# Altium schematic symbol library mainboard_1.SCHLIB: 115 symbols
Pins are listed as number, name and electrical type; pins without a type are passive.

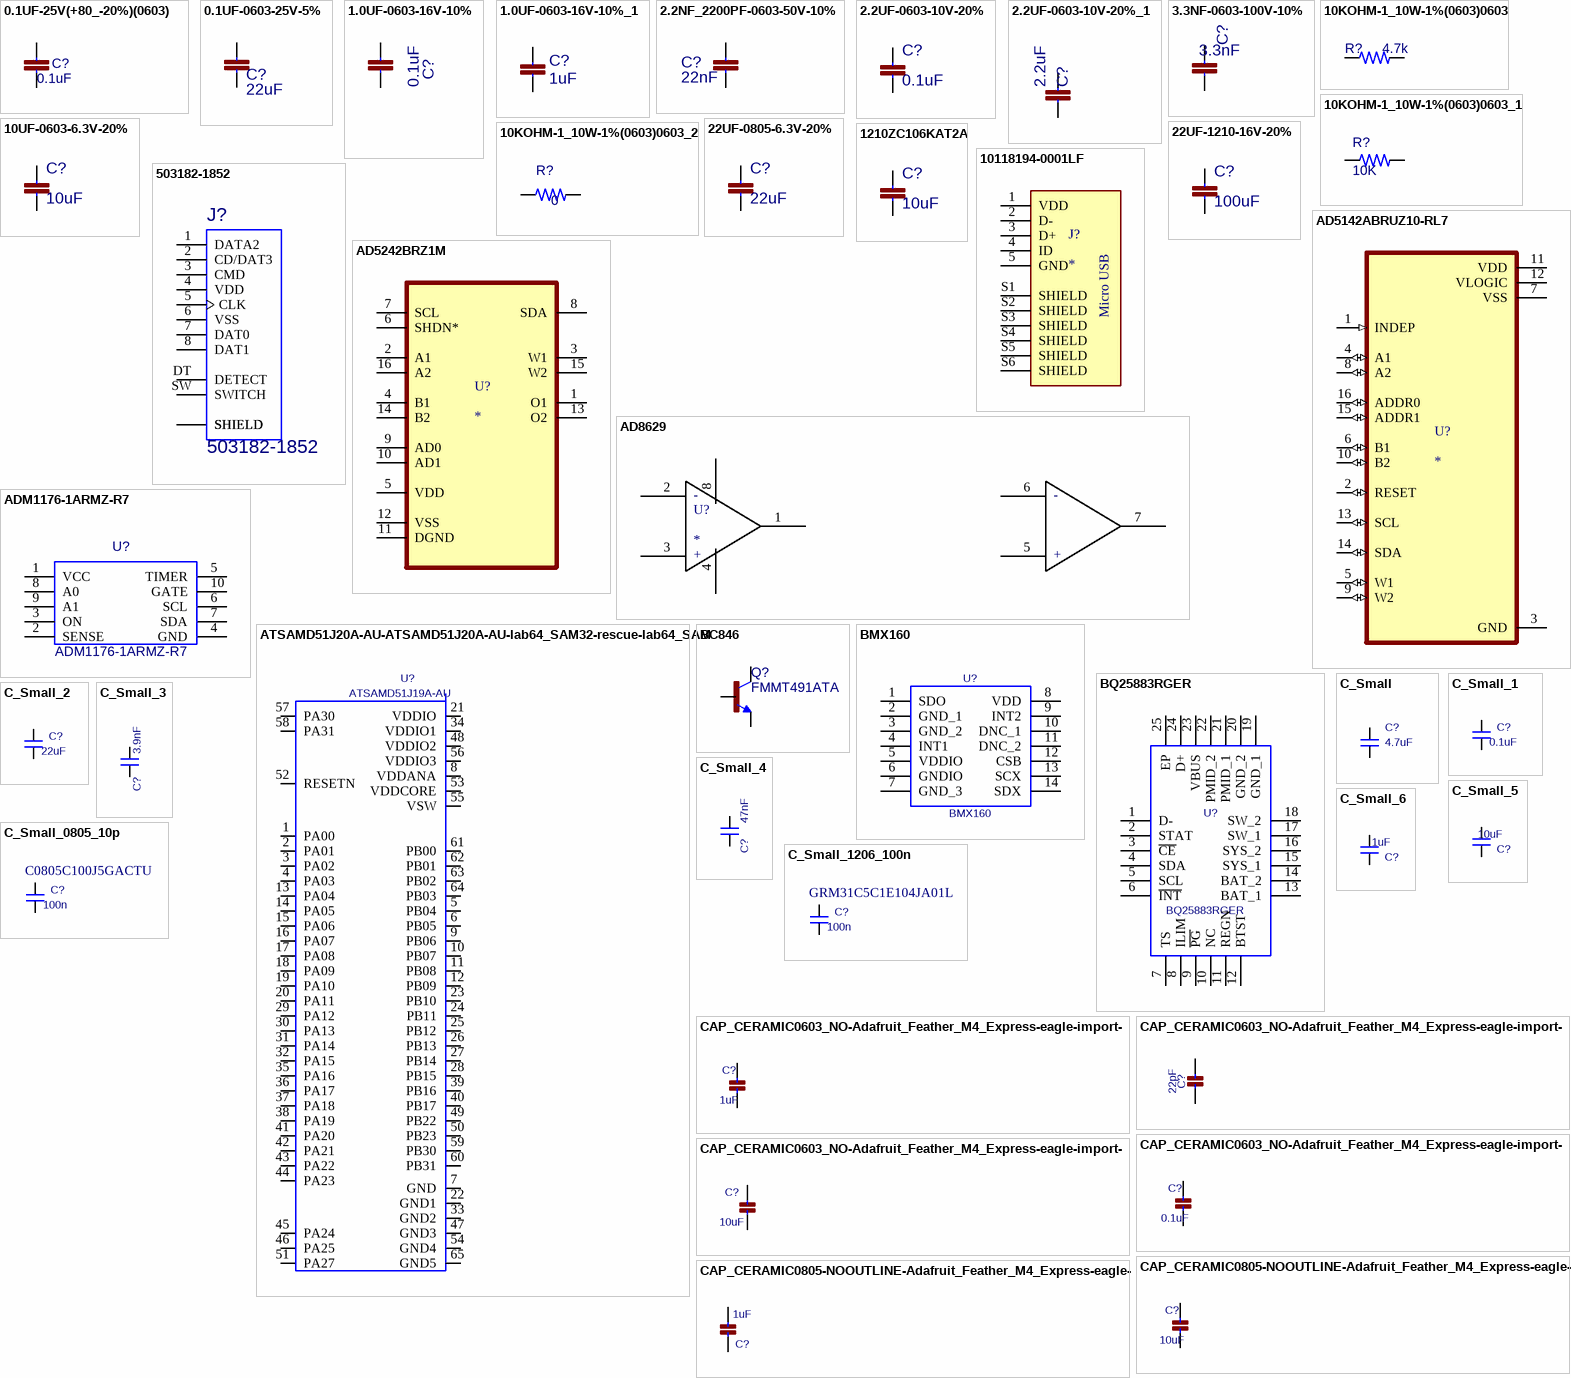
[diagram p0: symbols 0.1UF-25V(+80_-20%)(0603) to CAP_CERAMIC0805-NOOUTLINE-Adafruit_Feather_M4_Express-eagle-import-lab64_SAM32-rescue-SAMD-10-rescue-SAM32-rescue_1]

## 0.1UF-25V(+80_-20%)(0603)
designator C?, comment 0.1uF
MPN: CL10B104KB8NNNL; Footprint: Capacitor_SMD:C_0603_1608Metric; Value: 0.1uF
footprint C_0603_1608Metric
pins: 1, 2

## 0.1UF-0603-25V-5%
designator C?, comment 22uF
MPN: CL10A226MP8NUNE; Footprint: Capacitor_SMD:C_0603_1608Metric; Value: 22uF
footprint C_0603_1608Metric
pins: 1, 2

## 1.0UF-0603-16V-10%
designator C?, comment 0.1uF
MPN: CL10B104KO8NNNC; Footprint: Capacitor_SMD:C_0603_1608Metric; Value: 0.1uF
footprint C_0603_1608Metric
pins: 1, 2

## 1.0UF-0603-16V-10%_1
designator C?, comment 1uF
MPN: CL10A105KO8NNNC; Footprint: Capacitor_SMD:C_0603_1608Metric; Value: 1uF
footprint C_0603_1608Metric
pins: 1, 2

## 2.2NF_2200PF-0603-50V-10%
designator C?, comment 22nF
MPN: CL10B223KB8NNNC; Footprint: Capacitor_SMD:C_0603_1608Metric; Value: 22nF
footprint C_0603_1608Metric
pins: 1, 2

## 2.2UF-0603-10V-20%
designator C?, comment 0.1uF
MPN: CL10B104KO8NNNC; Footprint: Capacitor_SMD:C_0603_1608Metric; Value: 0.1uF
footprint C_0603_1608Metric
pins: 1, 2

## 2.2UF-0603-10V-20%_1
designator C?, comment 2.2uF
MPN: CL10A225KP8NNNC; Footprint: Capacitor_SMD:C_0603_1608Metric; Value: 2.2uF
footprint C_0603_1608Metric
pins: 1, 2

## 3.3NF-0603-100V-10%
designator C?, comment 3.3nF
MPN: 0603B332K101CT; Footprint: Capacitor_SMD:C_0603_1608Metric; Value: 3.3nF
footprint C_0603_1608Metric
pins: 1, 2

## 10KOHM-1_10W-1%(0603)0603
designator R?, comment 4.7k
MPN: RC0603JR-074K7L; Footprint: Resistor_SMD:R_0603_1608Metric; Value: 4.7k
footprint R_0603_1608Metric
pins: 1, 2

## 10KOHM-1_10W-1%(0603)0603_1
designator R?, comment 10K
MPN: MCT06030C1002FP500; Footprint: Resistor_SMD:R_0603_1608Metric; Value: 10K
footprint R_0603_1608Metric
pins: 1, 2

## 10KOHM-1_10W-1%(0603)0603_2
designator R?, comment 0
MPN: RMCF0603ZT0R00; Footprint: Resistor_SMD:R_0603_1608Metric; Value: 0
footprint R_0603_1608Metric
pins: 1, 2

## 10UF-0603-6.3V-20%
designator C?, comment 10uF
MPN: CL10A106MQ8NNNC; Footprint: Capacitor_SMD:C_0603_1608Metric; Value: 10uF
footprint C_0603_1608Metric
pins: 1, 2

## 22UF-0805-6.3V-20%
designator C?, comment 22uF
MPN: CL10A226MP8NUNE; Footprint: Capacitor_SMD:C_0603_1608Metric; Value: 22uF
footprint C_0603_1608Metric
pins: 1, 2

## 22UF-1210-16V-20%
designator C?, comment 100uF
MPN: CL32A107MQVNNNE; Footprint: Capacitor_SMD:C_1210_3225Metric; Value: 100uF
footprint C_1210_3225Metric
pins: 1, 2

## 1210ZC106KAT2A
designator C?, comment 10uF
MPN: 1210ZC106KAT2A; Footprint: Capacitor_SMD:C_0603_1608Metric; Value: 10uF
footprint C_0603_1608Metric
pins: 1, 2

## 503182-1852
designator J?
MPN: 5031821852; Footprint: mainboard:MOLEX_503182-1852; Value: 503182-1852
footprint MOLEX_503182-1852
pins: 1 DATA2, 2 CD/DAT3, 3 CMD, 4 VDD, 5 CLK, 6 VSS, 7 DAT0, 8 DAT1, DT DETECT, P1 SHIELD, P2 SHIELD, P3 SHIELD, P4 SHIELD, P5 SHIELD, SW SWITCH

## 10118194-0001LF
designator J?
Micro Usb, 2.0 Type b, Rcpt, Smt; MPN: 10118194-0001LF; Price: None; Availability: Unavailable; Value: *; Package: None
footprint AMPHENOL_10118194-0001LF
pins: 1 VDD, 2 D-, 3 D+, 4 ID, 5 GND, S1 SHIELD, S2 SHIELD, S3 SHIELD, S4 SHIELD, S5 SHIELD, S6 SHIELD
text: Micro USB

## AD5142ABRUZ10-RL7
designator U?
Digital Potentiometer 10kOhm 256POS Non-Volatile Linear/Log 16-Pin TSSOP T/R; MPN: AD5142ABRUZ10-RL7; MF: Analog Devices; Availability: In Stock; SnapEDA_Link: https://www.snapeda.com/parts/AD5142ABRUZ10-RL7/Analog+Devices/view-part/?ref=snap; Price: None; Package: TSSOP-16 Analog Devices; Value: *; Purchase-URL: https://pricing.snapeda.com/search/part/AD5142ABRUZ10-RL7/?ref=eda; Check_prices: https://www.snapeda.com/parts/AD5142ABRUZ10-RL7/Analog+Devices/view-part/?ref=eda
footprint SOP65P640X120-16N
pins: 1 INDEP (in), 2 RESET (io), 3 GND (power), 4 A1 (io), 5 W1 (io), 6 B1 (io), 7 VSS (power), 8 A2 (io), 9 W2 (io), 10 B2 (io), 11 VDD (power), 12 VLOGIC (power), 13 SCL (io), 14 SDA (io), 15 ADDR1 (io), 16 ADDR0 (io)

## AD5242BRZ1M
designator U?
Digital Potentiometer 1M Ohm 2 Circuit 256 Taps IÂ²C Interface 16-SOIC; MPN: AD5242BRZ1M; MF: Analog Devices; Value: *; Digi-Key_Part_Number: AD5242BRZ1M-ND; Check_prices: https://www.snapeda.com/parts/AD5242BRZ1M/Analog+Devices+Inc./view-part/?ref=eda; Package: SOIC-16 Analog Devices; SnapEDA_Link: https://www.snapeda.com/parts/AD5242BRZ1M/Analog+Devices+Inc./view-part/?ref=snap; Purchase-URL: https://pricing.snapeda.com/search/part/AD5242BRZ1M/?ref=eda
footprint SOIC127P600X175-16N
pins: 1 O1, 2 A1, 3 W1, 4 B1, 5 VDD (power), 6 SHDN*, 7 SCL, 8 SDA, 9 AD0, 10 AD1, 11 DGND, 12 VSS (power), 13 O2, 14 B2, 15 W2, 16 A2

## AD8629
designator U?
MPN: AD8629ARZ
footprint soic-8
pins: 1, 2, 3, 4, 5, 6, 7, 8
text: -; +

## ADM1176-1ARMZ-R7
designator U?
Proto: ADM1176-1ARMZ-R7; Footprint: custom-footprints:ADM1176-1ARMZ-R7; MPN: ADM1176-1ARMZ-R7; Value: ADM1176-1ARMZ-R7
footprint ADM1176-1ARMZ-R7
pins: 1 VCC, 2 SENSE, 3 ON, 4 GND, 5 TIMER, 6 SCL, 7 SDA, 8 A0, 9 A1, 10 GATE

## ATSAMD51J20A-AU-ATSAMD51J20A-AU-lab64_SAM32-rescue-lab64_SAM32-rescue-SAMD-10-rescue-SAM32-rescue
designator U?, comment Proto: ATSAMD51J19A-AU  (hidden comment: 120MHZ 512KB Flash 64 TQFP)
Field4: 120MHZ 512KB Flash 64 TQFP PKG inTray 85CTemp, 64 TQFP 10x10x1mm TRAY; Field5: TQFP-64 Microchip; Value: 120MHZ 512KB Flash 64 TQFP; Footprint: custom-footprints:QFP50P1200X1200X120-64N; MPN: ATSAMD51J19A-AU
footprint QFP50P1200X1200X120-64N
footprint ATSAMD51J19A-MU
pins: 1 PA00, 2 PA01, 3 PA02, 4 PA03, 5 PB04, 6 PB05, 7 GND, 8 VDDANA, 9 PB06, 10 PB07, 11 PB08, 12 PB09, 13 PA04, 14 PA05, 15 PA06, 16 PA07, 17 PA08, 18 PA09, 19 PA10, 20 PA11, 21 VDDIO, 22 GND1, 23 PB10, 24 PB11, 25 PB12, 26 PB13, 27 PB14, 28 PB15, 29 PA12, 30 PA13, 31 PA14, 32 PA15, 33 GND2, 34 VDDIO1, 35 PA16, 36 PA17, 37 PA18, 38 PA19, 39 PB16, 40 PB17, 41 PA20, 42 PA21, 43 PA22, 44 PA23, 45 PA24, 46 PA25, 47 GND3, 48 VDDIO2, 49 PB22, 50 PB23, 51 PA27, 52 RESETN, 53 VDDCORE, 54 GND4, 55 VSW, 56 VDDIO3, 57 PA30, 58 PA31, 59 PB30, 60 PB31, 61 PB00, 62 PB01, 63 PB02, 64 PB03, 65 GND5

## BC846
designator Q?, comment FMMT491ATA
Proto: S8050; Footprint: mainboard:SOT23; MPN: FMMT491ATA; Value: FMMT491ATA
footprint SOT23
pins: 1 B, 2 E, 3 C

## BMX160
designator U?
Proto: BMX160; Footprint: custom-footprints:BMX160; MPN: BMX160; Value: BMX160
footprint BMX160
pins: 1 SDO, 2 GND_1, 3 GND_2, 4 INT1, 5 VDDIO, 6 GNDIO, 7 GND_3, 8 VDD, 9 INT2, 10 DNC_1, 11 DNC_2, 12 CSB, 13 SCX, 14 SDX

## BQ25883RGER
designator U?
Proto: BQ25883RGER; Footprint: custom-footprints:QFN50P400X400X100-25N-D; MPN: BQ25883RGER; Value: BQ25883RGER
footprint QFN50P400X400X100-25N-D
pins: 1 D-, 2 STAT, 3 ~{CE}, 4 SDA, 5 SCL, 6 ~{INT}, 7 TS, 8 ILIM, 9 ~{PG}, 10 NC, 11 REGN, 12 BTST, 13 BAT_1, 14 BAT_2, 15 SYS_1, 16 SYS_2, 17 SW_1, 18 SW_2, 19 GND_1, 20 GND_2, 21 PMID_1, 22 PMID_2, 23 VBUS, 24 D+, 25 EP

## C_Small
designator C?, comment 4.7uF
MPN: CL10A475KQ8NNNC; Footprint: Capacitor_SMD:C_0603_1608Metric; Value: 4.7uF
footprint C_0603_1608Metric
pins: 1, 2

## C_Small_1
designator C?, comment 0.1uF
MPN: CL10B104KB8NNNL; Footprint: Capacitor_SMD:C_0603_1608Metric; Value: 0.1uF
footprint C_0603_1608Metric
pins: 1, 2

## C_Small_2
designator C?, comment 22uF
MPN: CL10A226MP8NUNE; Footprint: Capacitor_SMD:C_0603_1608Metric; Value: 22uF
footprint C_0603_1608Metric
pins: 1, 2

## C_Small_3
designator C?, comment 3.9nF
MPN: 0603B392K500CT; Footprint: Capacitor_SMD:C_0603_1608Metric; Value: 3.9nF
footprint C_0603_1608Metric
pins: 1, 2

## C_Small_4
designator C?, comment 47nF
MPN: CL10B473KB8NNNC; Footprint: Capacitor_SMD:C_0603_1608Metric; Value: 47nF
footprint C_0603_1608Metric
pins: 1, 2

## C_Small_5
designator C?, comment 10uF
MPN: CL10A106MQ8NNNC; Footprint: Capacitor_SMD:C_0603_1608Metric; Value: 10uF
footprint C_0603_1608Metric
pins: 1, 2

## C_Small_6
designator C?, comment 1uF
MPN: CL10A105KA8NNNC; Footprint: Capacitor_SMD:C_0603_1608Metric; Value: 1uF
footprint C_0603_1608Metric
pins: 1, 2

## C_Small_0805_10p
designator C?, comment value 100n  Supplier Part Number 1: C0805C100J5GACTU  (hidden comment: 10p)
Footprint: Capacitor_SMD:C_0603_1608Metric; MPN: C0805C100J5GACTU; Supplier 1: Arrow Electronics
footprint Resistor_0805
pins: 1, 2

## C_Small_1206_100n
designator C?, comment Supplier Part Number 1: GRM31C5C1E104JA01L  (hidden comment: 100n)
Footprint: Capacitor_SMD:C_0603_1608Metric; MPN: GRM31C5C1E104JA01L; Supplier 1: Arrow Electronics; Value: 100n
footprint Capacitor_1206
pins: 1, 2

## CAP_CERAMIC0603_NO-Adafruit_Feather_M4_Express-eagle-import-lab64_SAM32-rescue-SAMD-10-rescue-SAM32-rescue
designator C?, comment 1uF
MPN: CL10A105KB8NNNC; Footprint: Capacitor_SMD:C_0603_1608Metric; Value: 1uF
footprint C_0603_1608Metric
pins: 1, 2

## CAP_CERAMIC0603_NO-Adafruit_Feather_M4_Express-eagle-import-lab64_SAM32-rescue-SAMD-10-rescue-SAM32-rescue_1
designator C?, comment 22pF
MPN: 06035A220JAT2A; Footprint: Capacitor_SMD:C_0603_1608Metric; Value: 22pF
footprint C_0603_1608Metric
pins: 1, 2

## CAP_CERAMIC0603_NO-Adafruit_Feather_M4_Express-eagle-import-lab64_SAM32-rescue-SAMD-10-rescue-SAM32-rescue_2
designator C?, comment 0.1uF
MPN: CL10B104KB8NNNL; Footprint: Capacitor_SMD:C_0603_1608Metric; Value: 0.1uF
footprint C_0603_1608Metric
pins: 1, 2

## CAP_CERAMIC0603_NO-Adafruit_Feather_M4_Express-eagle-import-lab64_SAM32-rescue-SAMD-10-rescue-SAM32-rescue_3
designator C?, comment 10uF
MPN: CL10A106MQ8NNNC; Footprint: Capacitor_SMD:C_0603_1608Metric; Value: 10uF
footprint C_0603_1608Metric
pins: 1, 2

## CAP_CERAMIC0805-NOOUTLINE-Adafruit_Feather_M4_Express-eagle-import-lab64_SAM32-rescue-SAMD-10-rescue-SAM32-rescue
designator C?, comment 10uF
MPN: CL10A106MP8NNNC; Footprint: Capacitor_SMD:C_0603_1608Metric; Value: 10uF
footprint C_0603_1608Metric
pins: 1, 2

## CAP_CERAMIC0805-NOOUTLINE-Adafruit_Feather_M4_Express-eagle-import-lab64_SAM32-rescue-SAMD-10-rescue-SAM32-rescue_1
designator C?, comment 1uF
MPN: CL10A105KA8NNNC; Footprint: Capacitor_SMD:C_0603_1608Metric; Value: 1uF
footprint C_0603_1608Metric
pins: 1, 2

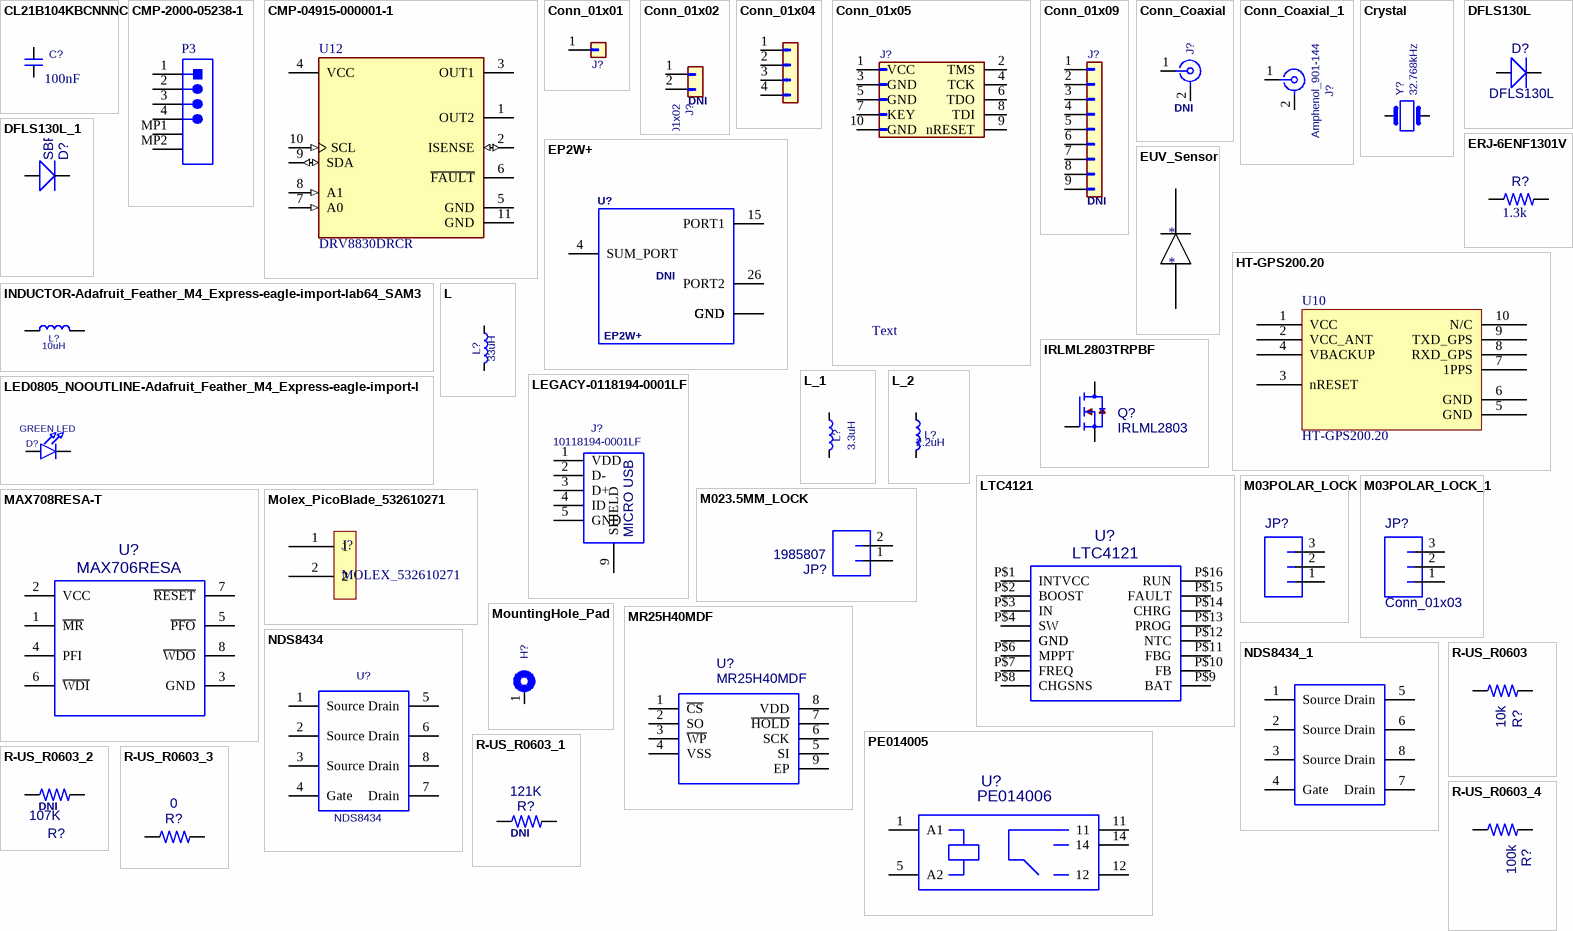
[diagram p1: symbols CL21B104KBCNNNC to R-US_R0603_4]

## CL21B104KBCNNNC
designator C?, comment 100nF
MPN: CL21B104KBCNNNC
footprint Resistor_0805
pins: 1, 2

## CMP-2000-05238-1
designator P3
Male Header, Pitch 1.25 mm, 1 x 4 Position, Height 3.4 mm, -40 to 85 degC, RoHS, Tape and Reel; MPN: 0533984004; Supplier 1: Digi-Key
footprint MOLEX-53261-0471_V (SMD, 4-Leads, Body 10.15x5.2mm, Pitch 1.25mm)
pins: 1, 2, 3, 4, MP1, MP2

## CMP-04915-000001-1
designator U12, comment DRV8830DRCR
IC MTRDRV BIPLR 2.75-6.8V 10VSON; Manufacturer: Texas Instruments; Switching Frequency: 44.5kHz; Standoff Height: 0mm; Nominal Supply Current: 1.4mA; Max Junction Temp: +150°C; Number Of Outputs: 1; Min Supply Voltage: 2.75V; Motor Type: Brushed; Max Supply Voltage: 6.8V; Output Current: 1A; Automotive: No; Temperature: -40°C to +85°C; ComponentLink2Description: Datasheet; Package: DRC0010J; Octopart: https://octopart.com/drv8830drcr-texas+instruments-21221812; Device Class L3: Motor Drivers; Height: 1mm; Lead Free: Yes; Device Class L2: Power Management ICs; Mouser Description: 1A Low Voltage Brushed DC Motor Driver with Speed Regulation (I2C Ctrl) 10-VSON -40 to 85; MPN: DRV8830DRCR; Temperature Range High: +85°C; ComponentLink2URL: http://www.ti.com/lit/ds/symlink/drv8830.pdf; Category: IC; RoHS: TRUE; Device Class L1: Integrated Circuits (ICs); Digikey Description: IC MTRDRV BIPLR 2.75-6.8V 10VSON; Temperature Range Low: -40°C
footprint FP-DRC0010J-MFG
pins: 1 OUT2 (power), 2 ISENSE (io), 3 OUT1 (power), 4 VCC (power), 5 GND (power), 6 ~{FAULT} (oc), 7 A0 (in), 8 A1 (in), 9 SDA (io), 10 SCL (in), 11 GND (power)

## Conn_01x01
designator J?  (value not drawn)  (mechanical)
Value: Conn_01x01; Footprint: Connector_PinHeader_2.54mm:PinHeader_1x01_P2.54mm_Vertical
footprint PinHeader_1x01_P2.54mm_Vertical
pins: 1 Pin_1

## Conn_01x02
designator J?  (mechanical)
Footprint: Connector_PinHeader_2.54mm:PinHeader_1x02_P2.54mm_Vertical; DNI: DNI; Value: Conn_01x02
footprint PinHeader_1x02_P2.54mm_Vertical
pins: 1 Pin_1, 2 Pin_2

## Conn_01x04
designator J?, comment USB Jumpers  (value not drawn)  (mechanical)
Value: USB Jumpers; Footprint: Connector_PinHeader_2.54mm:PinHeader_1x04_P2.54mm_Vertical
footprint PinHeader_1x04_P2.54mm_Vertical
pins: 1 Pin_1, 2 Pin_2, 3 Pin_3, 4 Pin_4

## Conn_01x05
designator J?  (value not drawn)  (no BOM)
Value: Conn_01x05; Footprint: Connector_PinHeader_2.54mm:PinHeader_1x05_P2.54mm_Vertical
footprint PinHeader_1x05_P2.54mm_Vertical
pins: 1 VCC, 2 TMS, 3 GND, 4 TCK, 5 GND, 6 TDO, 7 KEY, 8 TDI, 9 nRESET, 10 GND
text: Text

## Conn_01x09
designator J?  (value not drawn)  (mechanical)
Value: Conn_01x09; Footprint: Connector_PinHeader_2.54mm:PinHeader_1x09_P2.54mm_Vertical; DNI: DNI
footprint PinHeader_1x09_P2.54mm_Vertical
pins: 1 Pin_1, 2 Pin_2, 3 Pin_3, 4 Pin_4, 5 Pin_5, 6 Pin_6, 7 Pin_7, 8 Pin_8, 9 Pin_9

## Conn_Coaxial
designator J?, comment Amphenol_901-144  (value not drawn)  (mechanical)
Value: Amphenol_901-144; Footprint: Connector_Coaxial:SMA_Amphenol_901-144_Vertical; MPN: Amphenol_901-144; DNI: DNI
footprint SMA_Amphenol_901-144_Vertical
pins: 1 In, 2 Ext

## Conn_Coaxial_1
designator J?, comment Amphenol_901-144  (mechanical)
Footprint: Connector_Coaxial:SMA_Amphenol_901-144_Vertical; MPN: Amphenol_901-144; Value: Amphenol_901-144
footprint SMA_Amphenol_901-144_Vertical
pins: 1 In, 2 Ext

## Crystal
designator Y?, comment 32.768kHz
Proto: ABS07-32.768KHZ-T; Footprint: Crystal:Crystal_SMD_3215-2Pin_3.2x1.5mm; MPN: ABS07-32.768KHZ-T; Value: 32.768kHz
footprint Crystal_SMD_3215-2Pin_3.2x1.5mm
pins: 1, 2

## DFLS130L
designator D?
Proto: DFLS130L; Footprint: mainboard:PWRDI-123; MPN: DFLS130L; Value: DFLS130L
footprint PWRDI-123
pins: A, C

## DFLS130L_1
designator D?, comment SBR2A40P1Q-7
Proto: SBR2A40P1Q-7; Footprint: mainboard:PWRDI-123; MPN: SBR2A40P1Q-7; Value: SBR2A40P1Q-7
footprint PWRDI-123
pins: A, C

## EP2W+
designator U?  (value not drawn)
Value: EP2W+; Footprint: mainboard:QFN32-5X5MM; MPN: EP2W+; DNI: DNI
footprint QFN32-5X5MM
pins: 1 GND, 2 GND, 3 GND, 4 SUM_PORT, 5 GND, 6 GND, 7 GND, 8 GND, 9 GND, 10 GND, 11 GND, 12 GND, 13 GND, 14 GND, 15 PORT1, 16 GND, 17 GND, 18 GND, 19 GND, 20 GND, 21 GND, 22 GND, 23 GND, 24 GND, 25 GND, 26 PORT2, 27 GND, 28 GND, 29 GND, 30 GND, 31 GND, 32 GND, EP GND

## ERJ-6ENF1301V
designator R?, comment 1.3k
MPN: ERJ-6ENF1301V
footprint L_0805_2012Metric_Pad1.15x1.40mm_HandSolder
pins: 1, 2

## EUV_Sensor
designator *
pins: 1, 2

## HT-GPS200.20
designator U10
HT-GPS200.20 GNSS module
footprint HT-GPS200.20 (Footprint not found)
pins: 1 VCC, 2 VCC_ANT, 3 nRESET, 4 VBACKUP, 5 GND, 6 GND, 7 1PPS, 8 RXD_GPS, 9 TXD_GPS, 10 N/C

## INDUCTOR-Adafruit_Feather_M4_Express-eagle-import-lab64_SAM32-rescue-SAMD-10-rescue-SAM32-rescue
designator L?, comment 10uH
MPN: LBR2012T100K; Footprint: Inductor_SMD:L_0805_2012Metric_Pad1.15x1.40mm_HandSolder; Value: 10uH
footprint L_0805_2012Metric_Pad1.15x1.40mm_HandSolder
pins: 1, 2

## IRLML2803TRPBF
designator Q?, comment IRLML2803
Proto: 2302; Footprint: mainboard:SOT-23; MPN: IRLML2803; Value: IRLML2803
footprint SOT-23
pins: 1 G, 2 S, 3 D

## L
designator L?, comment 33uH
MPN: SLF6028T-330MR69-PF; Proto: SNR5040K-330M; Footprint: Inductor_SMD:L_1812_4532Metric; Value: 33uH
footprint L_1812_4532Metric
pins: 1, 2

## L_1
designator L?, comment 3.3uH
MPN: SPM5030T-3R3M-HZ; Proto: HPC5040NF-3R3MTH; Footprint: custom-footprints:L_2141; Value: 3.3uH
footprint L_2141
pins: 1, 2

## L_2
designator L?, comment value 2.2uH  (hidden comment: 1uH)
MPN: XFL4020-222MEC; Proto: XFL4020-222ME; Footprint: custom-footprints:L_4141
footprint L_4141
pins: 1, 1, 2, 2

## LED0805_NOOUTLINE-Adafruit_Feather_M4_Express-eagle-import-lab64_SAM32-rescue-SAMD-10-rescue-SAM32-rescue
designator D?, comment GREEN LED
MPN: LTST-C191KGKT; Footprint: LED_SMD:LED_0603_1608Metric; Value: GREEN LED
footprint LED_0603_1608Metric
pins: 1, 2

## LEGACY-0118194-0001LF
designator J?, comment 10118194-0001LF
Field4: Micro Usb, 2.0 Type b, Rcpt, Smt; Field5: 10118194-0001LF; Footprint: custom-footprints:10118194-0001LF; MPN: 10118194-0001LF; Value: 10118194-0001LF
footprint 10118194-0001LF
pins: 1 VDD, 2 D-, 3 D+, 4 ID, 5 GND, 8 hidden, 9 SHIELD
text: MICRO USB

## LTC4121
designator U?
Proto: LTC4121EUD; Footprint: custom-footprints:QFN-16-PAD; MPN: LTC4121EUD; Value: LTC4121
footprint QFN-16-PAD
pins: P$1 INTVCC, P$2 BOOST, P$3 IN, P$4 SW, P$5 GND, P$6 MPPT, P$7 FREQ, P$8 CHGSNS, P$9 BAT, P$10 FB, P$11 FBG, P$12 NTC, P$13 PROG, P$14 CHRG, P$15 FAULT, P$16 RUN, P$17 GND

## M03POLAR_LOCK
designator JP?, comment Conn_01x03  (value not drawn)
Value: Conn_01x03; Footprint: mainboard:MOLEX-1X3_LOCK
footprint MOLEX-1X3_LOCK
pins: 1, 2, 3

## M03POLAR_LOCK_1
designator JP?, comment Conn_01x03
Footprint: mainboard:MOLEX-1X3_LOCK; Value: Conn_01x03
footprint MOLEX-1X3_LOCK
pins: 1, 2, 3

## M023.5MM_LOCK
designator JP?, comment 1985807
Footprint: mainboard:SCREWTERMINAL-3.5MM-2_LOCK; Value: 1985807
footprint SCREWTERMINAL-3.5MM-2_LOCK
pins: 1, 2

## MAX708RESA-T
designator U?, comment MAX706RESA
Proto: MAX706RESA; Footprint: Package_SO:SO-8_3.9x4.9mm_P1.27mm; MPN: MAX706RESA; Value: MAX706RESA
footprint SO-8_3.9x4.9mm_P1.27mm
pins: 1 ~{MR}, 2 VCC, 3 GND, 4 PFI, 5 ~{PFO}, 6 ~{WDI}, 7 ~{RESET}, 8 ~{WDO}

## Molex_PicoBlade_532610271
designator J?, comment MOLEX_532610271
MPN: 532610271
footprint Molex_PicoBlade_532610271
pins: 1, 2

## MountingHole_Pad
designator H?  (value not drawn)  (no BOM)
Value: MountingHole_Pad; Footprint: MountingHole:MountingHole_3.2mm_M3_DIN965_Pad
footprint MountingHole_3.2mm_M3_DIN965_Pad
pins: 1

## MR25H40MDF
designator U?
Proto: W25Q80DVSNIG; Footprint: mainboard:SON127P600X500X90-9N; MPN: MR25H40MDF; Value: MR25H40MDF
footprint SON127P600X500X90-9N
pins: 1 ~{CS}, 2 SO, 3 ~{WP}, 4 VSS, 5 SI, 6 SCK, 7 ~{HOLD}, 8 VDD, 9 EP

## NDS8434
designator U?
MPN: IRF7404TRPBF; Proto: DMP2022LSS-13; Footprint: custom-footprints:NDS8434; Value: NDS8434
footprint NDS8434
pins: 1 Source, 2 Source, 3 Source, 4 Gate, 5 Drain, 6 Drain, 7 Drain, 8 Drain

## NDS8434_1
designator U?, comment NDS8434  (value not drawn)
MPN: IRF7404TRPBF; Proto: DMP2022LSS-13; Value: NDS8434; Footprint: custom-footprints:NDS8434
footprint NDS8434
pins: 1 Source, 2 Source, 3 Source, 4 Gate, 5 Drain, 6 Drain, 7 Drain, 8 Drain

## PE014005
designator U?, comment PE014006
MPN: PE014006 TE; Proto: JE-109D GOODSKY; Footprint: mainboard:RELAY5-PE_CO; Value: PE014006
footprint RELAY5-PE_CO
pins: 1 A1, 5 A2, 11, 12, 14

## R-US_R0603
designator R?, comment 10k
MPN: RNCP0603FTD10K0; Footprint: Resistor_SMD:R_0603_1608Metric; Value: 10k
footprint R_0603_1608Metric
pins: 1, 2

## R-US_R0603_1
designator R?, comment 121K
MPN: RT0603FRE07121KL; Footprint: Resistor_SMD:R_0603_1608Metric; DNI: DNI; Value: 121K
footprint R_0603_1608Metric
pins: 1, 2

## R-US_R0603_2
designator R?, comment 107K
MPN: RC0603FR-07107KL; Footprint: Resistor_SMD:R_0603_1608Metric; DNI: DNI; Value: 107K
footprint R_0603_1608Metric
pins: 1, 2

## R-US_R0603_3
designator R?, comment 0
MPN: RMCF0603ZT0R00; Footprint: Resistor_SMD:R_0603_1608Metric; Value: 0
footprint R_0603_1608Metric
pins: 1, 2

## R-US_R0603_4
designator R?, comment 100k
MPN: RC0603JR-07100KL; Footprint: Resistor_SMD:R_0603_1608Metric; Value: 100k
footprint R_0603_1608Metric
pins: 1, 2

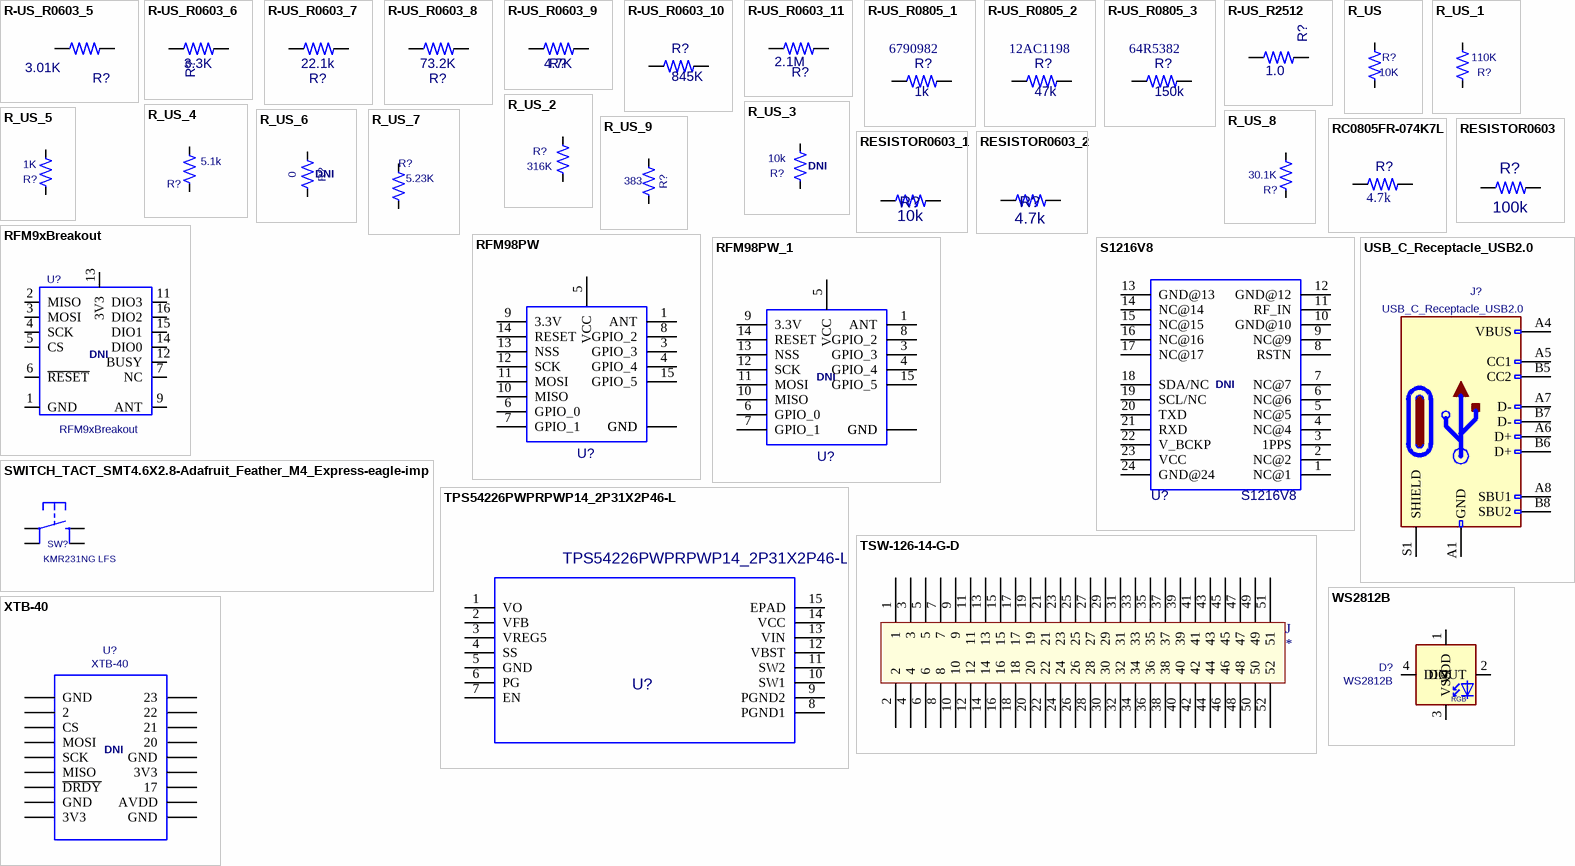
[diagram p2: symbols R-US_R0603_5 to XTB-40]

## R-US_R0603_5
designator R?, comment 3.01K
MPN: RMCF0603FT3K01; Footprint: Resistor_SMD:R_0603_1608Metric; Value: 3.01K
footprint R_0603_1608Metric
pins: 1, 2

## R-US_R0603_6
designator R?, comment 3.3K
MPN: RC0603FR-073K3L; Footprint: Resistor_SMD:R_0603_1608Metric; Value: 3.3K
footprint R_0603_1608Metric
pins: 1, 2

## R-US_R0603_7
designator R?, comment 22.1k
MPN: RC0603FR-1022K1L; Footprint: Resistor_SMD:R_0603_1608Metric; Value: 22.1k
footprint R_0603_1608Metric
pins: 1, 2

## R-US_R0603_8
designator R?, comment 73.2K
MPN: RC0603FR-0773K2L; Footprint: Resistor_SMD:R_0603_1608Metric; Value: 73.2K
footprint R_0603_1608Metric
pins: 1, 2

## R-US_R0603_9
designator R?, comment 4.7K
MPN: RC0603JR-074K7L; Footprint: Resistor_SMD:R_0603_1608Metric; Value: 4.7K
footprint R_0603_1608Metric
pins: 1, 2

## R-US_R0603_10
designator R?, comment 845K
MPN: RC0603FR-07845KL; Footprint: Resistor_SMD:R_0603_1608Metric; Value: 845K
footprint R_0603_1608Metric
pins: 1, 2

## R-US_R0603_11
designator R?, comment 2.1M
MPN: RC0603FR-072M1L; Footprint: Resistor_SMD:R_0603_1608Metric; Value: 2.1M
footprint R_0603_1608Metric
pins: 1, 2

## R-US_R0805_1
designator R?, comment Supplier Part Number 1: 6790982  (hidden comment: 1k)
MPN: RN73C2A1K0BTDF; Footprint: Resistor_SMD:R_0603_1608Metric; Supplier 1: RSComponents; Value: 1k
footprint L_0805_2012Metric_Pad1.15x1.40mm_HandSolder
pins: 1, 2

## R-US_R0805_2
designator R?, comment Supplier Part Number 1: 12AC1198  (hidden comment: 47k)
MPN: ERJ-6GEYJ473V; Footprint: Resistor_SMD:R_0603_1608Metric; Supplier 1: Newark; Value: 47k
footprint L_0805_2012Metric_Pad1.15x1.40mm_HandSolder
pins: 1, 2

## R-US_R0805_3
designator R?, comment Supplier Part Number 1: 64R5382  (hidden comment: 150k)
MPN: ERJ-6ENF1503V; Footprint: Resistor_SMD:R_0603_1608Metric; Supplier 1: Newark; Value: 150k
footprint L_0805_2012Metric_Pad1.15x1.40mm_HandSolder
pins: 1, 2

## R-US_R2512
designator R?, comment 1.0
MPN: RMCF2512FT1R00; Footprint: Resistor_SMD:R_2512_6332Metric; Value: 1.0
footprint R_2512_6332Metric
pins: 1, 2

## R_US
designator R?, comment 10K
MPN: CRGCQ0603J10K; Footprint: Resistor_SMD:R_0603_1608Metric; Value: 10K
footprint R_0603_1608Metric
pins: 1, 2

## R_US_1
designator R?, comment 110K
MPN: RC0603JR-07110KL; Footprint: Resistor_SMD:R_0603_1608Metric; Value: 110K
footprint R_0603_1608Metric
pins: 1, 2

## R_US_2
designator R?, comment 316K
MPN: RT0603BRD07316KL; Footprint: Resistor_SMD:R_0603_1608Metric; Value: 316K
footprint R_0603_1608Metric
pins: 1, 2

## R_US_3
designator R?, comment 10k
MPN: RT0603DRD0710KL; Footprint: Resistor_SMD:R_0603_1608Metric; DNI: DNI; Value: 10k
footprint R_0603_1608Metric
pins: 1, 2

## R_US_4
designator R?, comment 5.1k
MPN: RC0603JR-075K1L; Footprint: Resistor_SMD:R_0603_1608Metric; Value: 5.1k
footprint R_0603_1608Metric
pins: 1, 2

## R_US_5
designator R?, comment 1K
MPN: AF0603FR-071KL; Footprint: Resistor_SMD:R_0603_1608Metric; Value: 1K
footprint R_0603_1608Metric
pins: 1, 2

## R_US_6
designator R?, comment 0
MPN: RMCF0603ZT0R00; Footprint: Resistor_SMD:R_0603_1608Metric; DNI: DNI; Value: 0
footprint R_0603_1608Metric
pins: 1, 2

## R_US_7
designator R?, comment 5.23K
MPN: AC0603FR-075K23L; Footprint: Resistor_SMD:R_0603_1608Metric; Value: 5.23K
footprint R_0603_1608Metric
pins: 1, 2

## R_US_8
designator R?, comment 30.1K
MPN: RT0603BRD0730K1L; Footprint: Resistor_SMD:R_0603_1608Metric; Value: 30.1K
footprint R_0603_1608Metric
pins: 1, 2

## R_US_9
designator R?, comment 383
MPN: RC0603FR-07383KL; Footprint: Resistor_SMD:R_0603_1608Metric; Value: 383
footprint R_0603_1608Metric
pins: 1, 2

## RC0805FR-074K7L
designator R?, comment 4.7k
MPN: RC0805FR-074K7L
footprint L_0805_2012Metric_Pad1.15x1.40mm_HandSolder
pins: 1, 2

## RESISTOR0603
designator R?, comment 100k
MPN: RC0603JR-07100KL; Footprint: Resistor_SMD:R_0603_1608Metric; Value: 100k
footprint R_0603_1608Metric
pins: 1, 2

## RESISTOR0603_1
designator R?, comment 10k
MPN: RNCP0603FTD10K0; Footprint: Resistor_SMD:R_0603_1608Metric; Value: 10k
footprint R_0603_1608Metric
pins: 1, 2

## RESISTOR0603_2
designator R?, comment 4.7k
MPN: RC0603JR-074K7L; Footprint: Resistor_SMD:R_0603_1608Metric; Value: 4.7k
footprint R_0603_1608Metric
pins: 1, 2

## RFM9xBreakout
designator U?
MPN: 109990166; Footprint: RF_Module:HOPERF_RFM9XW_SMD; DNI: DNI; Value: RFM9xBreakout
footprint HOPERF_RFM9XW_SMD
pins: 1 GND, 2 MISO, 3 MOSI, 4 SCK, 5 CS, 6 ~{RESET}, 7 NC, 8 GND hidden, 9 ANT, 10 GND hidden, 11 DIO3, 12 BUSY, 13 3V3, 14 DIO0, 15 DIO1, 16 DIO2

## RFM98PW
designator U?  (value not drawn)
MPN: RFM98W-433S2; Value: RFM98PW; Footprint: custom-footprints:RFM98PW
footprint RFM98PW
pins: 1 ANT, 2 GND, 3 GPIO_3, 4 GPIO_4, 5 VCC, 6 GPIO_0, 7 GPIO_1, 8 GPIO_2, 9 3.3V, 10 MISO, 11 MOSI, 12 SCK, 13 NSS, 14 RESET, 15 GPIO_5, 16 GND

## RFM98PW_1
designator U?, comment RFM98PW  (value not drawn)
MPN: RFM98W-433S2; Value: RFM98PW; Footprint: custom-footprints:RFM98PW; DNI: DNI
footprint RFM98PW
pins: 1 ANT, 2 GND, 3 GPIO_3, 4 GPIO_4, 5 VCC, 6 GPIO_0, 7 GPIO_1, 8 GPIO_2, 9 3.3V, 10 MISO, 11 MOSI, 12 SCK, 13 NSS, 14 RESET, 15 GPIO_5, 16 GND

## S1216V8
designator U?
Footprint: mainboard:S1216_24PIN_PACKAGE; MPN: S1216V8; DNI: DNI; Value: S1216V8
footprint S1216_24PIN_PACKAGE
pins: 1 NC@1, 2 NC@2, 3 1PPS, 4 NC@4, 5 NC@5, 6 NC@6, 7 NC@7, 8 RSTN, 9 NC@9, 10 GND@10, 11 RF_IN, 12 GND@12, 13 GND@13, 14 NC@14, 15 NC@15, 16 NC@16, 17 NC@17, 18 SDA/NC, 19 SCL/NC, 20 TXD, 21 RXD, 22 V_BCKP, 23 VCC, 24 GND@24

## SWITCH_TACT_SMT4.6X2.8-Adafruit_Feather_M4_Express-eagle-import-lab64_SAM32-rescue-SAMD-10-rescue-SAM32-rescue
designator SW?, comment KMR231NG LFS
Footprint: Adafruit Feather M4 Express:BTN_KMR2_4.6X2.8; MPN: KMR231NG LFS; Value: KMR231NG LFS
footprint BTN_KMR2_4.6X2.8
pins: A P, A' P1, B S, B' S1

## TPS54226PWPRPWP14_2P31X2P46-L
designator U?
Proto: TPS54226PWPRPWP14_2P31X2P46-L; Footprint: mainboard:PWP14_2P31X2P46-L; MPN: TPS54226PWP; Value: TPS54226PWPRPWP14_2P31X2P46-L
footprint PWP14_2P31X2P46-L
pins: 1 VO, 2 VFB, 3 VREG5, 4 SS, 5 GND, 6 PG, 7 EN, 8 PGND1, 9 PGND2, 10 SW1, 11 SW2, 12 VBST, 13 VIN, 14 VCC, 15 EPAD

## TSW-126-14-G-D
designator J
MPN: TSW-126-14-G-D
footprint SAMTEC_TSW-126-14-G-D
pins: 1, 2, 3, 4, 5, 6, 7, 8, 9, 10, 11, 12, 13, 14, 15, 16, 17, 18, 19, 20, 21, 22, 23, 24, 25, 26, 27, 28, 29, 30, 31, 32, 33, 34, 35, 36, 37, 38, 39, 40, 41, 42, 43, 44, 45, 46, 47, 48, 49, 50, 51, 52

## USB_C_Receptacle_USB2.0
designator J?
MPN: U262-161N-4BVC11; Footprint: custom-footprints:USB_C_Receptacle_XKB_U262-161N-4BVC11; Value: USB_C_Receptacle_USB2.0
footprint USB_C_Receptacle_XKB_U262-161N-4BVC11
pins: A1 GND, A4 VBUS, A5 CC1, A6 D+, A7 D-, A8 SBU1, A9 VBUS hidden, A12 GND hidden, B1 GND hidden, B4 VBUS hidden, B5 CC2, B6 D+, B7 D-, B8 SBU2, B9 VBUS hidden, B12 GND hidden, S1 SHIELD

## WS2812B
designator D?
MPN: COM-16347; Proto: WS2812B; Footprint: LED_SMD:LED_WS2812B_PLCC4_5.0x5.0mm_P3.2mm; Value: WS2812B
footprint LED_WS2812B_PLCC4_5.0x5.0mm_P3.2mm
pins: 1 VDD, 2 DOUT, 3 VSS, 4 DIN
text: RGB

## XTB-40
designator U?  (mechanical)
Footprint: custom-footprints:XTB28_MEZ; DNI: DNI; Value: XTB-40
footprint XTB28_MEZ
pins: 1 GND, 2, 3 CS, 4 MOSI, 5 SCK, 6 MISO, 7 ~{DRDY}, 8 GND, 9 3V3, 10 GND hidden, 11 AVDD hidden, 15 GND, 16 AVDD, 17, 18 3V3, 19 GND, 20, 21, 22, 23